# Altium schematic symbol library E155.SchLib: 8 symbols
Pins are listed as number, name and electrical type; pins without a type are passive.

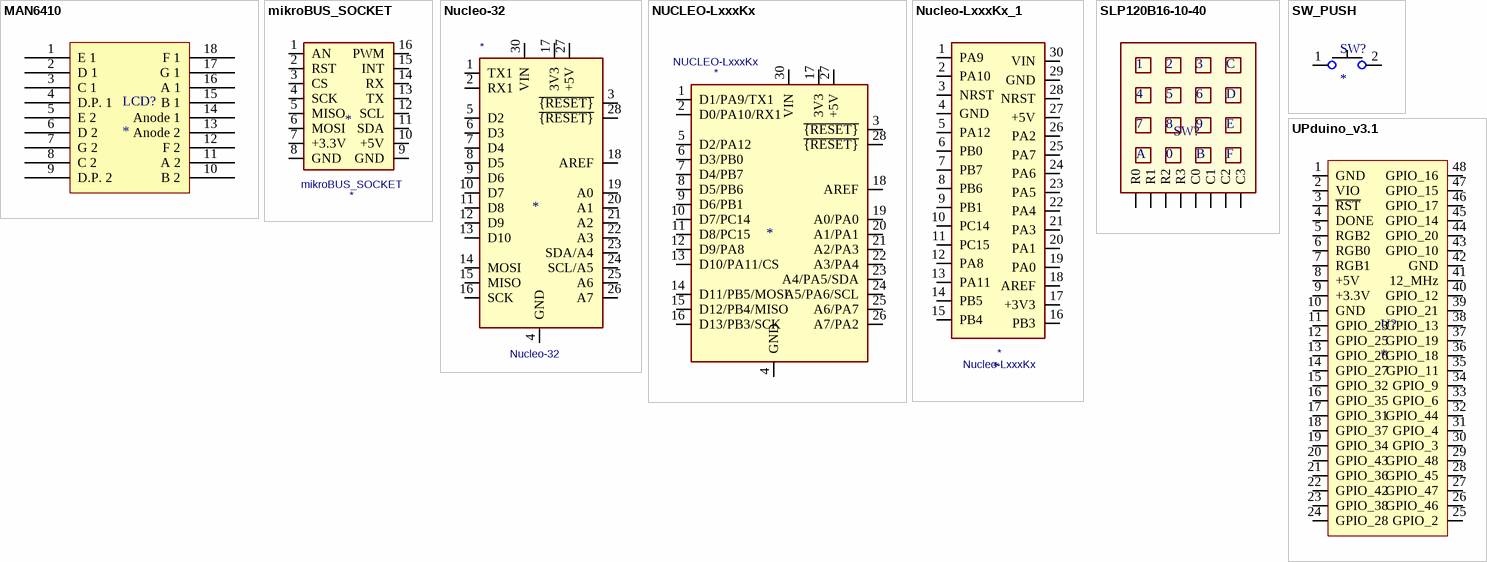
[diagram p0: symbols MAN6410 to UPduino_v3.1]

## MAN6410
designator LCD?
Supplier: Digi-Key; Supplier Part Number: MAN6410EL-ND
pins: 1 E 1, 2 D 1, 3 C 1, 4 D.P. 1, 5 E 2, 6 D 2, 7 G 2, 8 C 2, 9 D.P. 2, 10 B 2, 11 A 2, 12 F 2, 13 Anode 2, 14 Anode 1, 15 B 1, 16 A 1, 17 G 1, 18 F 1

## mikroBUS_SOCKET
designator *  value mikroBUS_SOCKET
pins: 1 AN, 2 RST, 3 CS, 4 SCK, 5 MISO, 6 MOSI, 7 +3.3V, 8 GND, 9 GND, 10 +5V, 11 SDA, 12 SCL, 13 TX, 14 RX, 15 INT, 16 PWM

## Nucleo-32
designator *  value Nucleo-32
ki_keywords: Arduino nano microcontroller module USB UPDI AATMega4809 AVR; ki_description: Arduino Nano Every; ki_fp_filters: Arduino*Nano*; Footprint: Module:Arduino_Nano; Supplier: https://content.arduino.cc/assets/NANOEveryV3.0_sch.pdf
footprint Arduino_Nano
pins: 1 TX1, 2 RX1, 3 ~{{RESET}}, 4 GND, 5 D2, 6 D3, 7 D4, 8 D5, 9 D6, 10 D7, 11 D8, 12 D9, 13 D10, 14 MOSI, 15 MISO, 16 SCK, 17 3V3, 18 AREF, 19 A0, 20 A1, 21 A2, 22 A3, 23 SDA/A4, 24 SCL/A5, 25 A6, 26 A7, 27 +5V, 28 ~{{RESET}}, 29 GND hidden, 30 VIN

## NUCLEO-LxxxKx
designator *  value NUCLEO-LxxxKx
ki_keywords: Arduino nano microcontroller module USB UPDI AATMega4809 AVR; ki_description: Arduino Nano Every; ki_fp_filters: Arduino*Nano*; Footprint: Module:Arduino_Nano; Supplier: https://content.arduino.cc/assets/NANOEveryV3.0_sch.pdf
footprint Arduino_Nano
pins: 1 D1/PA9/TX1, 2 D0/PA10/RX1, 3 ~{{RESET}}, 4 GND, 5 D2/PA12, 6 D3/PB0, 7 D4/PB7, 8 D5/PB6, 9 D6/PB1, 10 D7/PC14, 11 D8/PC15, 12 D9/PA8, 13 D10/PA11/CS, 14 D11/PB5/MOSI, 15 D12/PB4/MISO, 16 D13/PB3/SCK, 17 3V3, 18 AREF, 19 A0/PA0, 20 A1/PA1, 21 A2/PA3, 22 A3/PA4, 23 A4/PA5/SDA, 24 A5/PA6/SCL, 25 A6/PA7, 26 A7/PA2, 27 +5V, 28 ~{{RESET}}, 29 GND hidden, 30 VIN

## Nucleo-LxxxKx_1
designator *  value Nucleo-LxxxKx
pins: 1 PA9, 2 PA10, 3 NRST, 4 GND, 5 PA12, 6 PB0, 7 PB7, 8 PB6, 9 PB1, 10 PC14, 11 PC15, 12 PA8, 13 PA11, 14 PB5, 15 PB4, 16 PB3, 17 +3V3, 18 AREF, 19 PA0, 20 PA1, 21 PA3, 22 PA4, 23 PA5, 24 PA6, 25 PA7, 26 PA2, 27 +5V, 28 NRST, 29 GND, 30 VIN

## SLP120B16-10-40
designator SW?, comment 4X4 Keypad  (value not drawn)
pins: 1 R0, 2 C0, 3 R1, 4 C1, 5 R2, 6 C2, 7 R3, 8 C3
text: C; D; 9; E; A; 0; B; F

## SW_PUSH
designator SW?
pins: 1, 2

## UPduino_v3.1
designator U?
pins: 1 GND, 2 VIO, 3 ~{RST}, 4 DONE, 5 RGB2, 6 RGB0, 7 RGB1, 8 +5V, 9 +3.3V, 10 GND, 11 GPIO_23, 12 GPIO_25, 13 GPIO_26, 14 GPIO_27, 15 GPIO_32, 16 GPIO_35, 17 GPIO_31, 18 GPIO_37, 19 GPIO_34, 20 GPIO_43, 21 GPIO_36, 22 GPIO_42, 23 GPIO_38, 24 GPIO_28, 25 GPIO_2, 26 GPIO_46, 27 GPIO_47, 28 GPIO_45, 29 GPIO_48, 30 GPIO_3, 31 GPIO_4, 32 GPIO_44, 33 GPIO_6, 34 GPIO_9, 35 GPIO_11, 36 GPIO_18, 37 GPIO_19, 38 GPIO_13, 39 GPIO_21, 40 GPIO_12, 41 12_MHz, 42 GND, 43 GPIO_10, 44 GPIO_20, 45 GPIO_14, 46 GPIO_17, 47 GPIO_15, 48 GPIO_16